# Altium footprint library PCB - CAPACITOR - TANTALUM - KEMET KO-CAP T530 2917_7343 4.3MM.PCBLIB: 1 footprints
Each footprint in its own frame and in the unit in brackets; x right, y up, seen from the top. Pads: shape width x height; smd on the part's side, far side on the other; paste and mask are expansions set on the pad; w line width, h text height; cw(c..) or ccw(c..) is an arc to the next point about the centre after c.
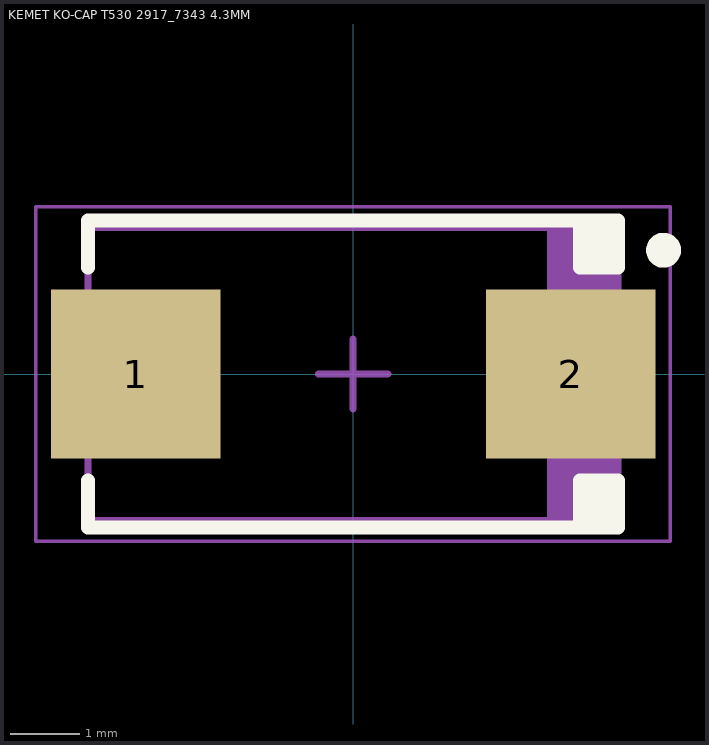
[diagram p0: the footprint, top view; thin cyan lines are the x and y axes]

## KEMET KO-CAP T530 2917_7343 4.3MM [mm] "Molded Capacitor, 2-Leads, Body 7.30x4.30mm"
height 4.3
pads (2):
  rect 2.43x2.43 smd: 1(-3.12,0) 2(3.12,0)
Top Overlay:
  circle w0.25: c4.45,1.775 r0.125
  region: 3.8,-1.525 3.25,-1.525 3.25,-2.2 3.8,-2.2
  region: 3.8,2.2 3.25,2.2 3.25,1.525 3.8,1.525
  lines w0.2: -3.8,-1.525 -3.8,-2.2 3.8,-2.2 3.8,-1.525 3.25,-1.525 3.25,-2.2 ; -3.8,1.525 -3.8,2.2 3.8,2.2 3.8,1.525 3.25,1.525 3.25,2.2
Mechanical 13:
  region: 3.8,2.1 2.778,2.1 2.778,-2.1 3.8,-2.1
  lines w0.1: -3.8,-2.1 -3.8,2.1 3.8,2.1 3.8,-2.1 -3.8,-2.1
Mechanical 15:
  lines w0.05: -4.55,-2.4 -4.55,2.4 4.55,2.4 4.55,-2.4 -4.55,-2.4
  lines w0.1: -0.5,0 0.5,0 ; 0,-0.5 0,0.5
3D body "KEMET KO-CAP T530 2917_7343 4.3MM.step": height 4.3, standoff 0, extent -3.8,-2.15 3.8,2.15